# Altium footprint library 42Motor_Control.PcbLib: 2 footprints
Each footprint in its own frame and in the unit in brackets; x right, y up, seen from the top. Pads: shape width x height; smd on the part's side, far side on the other; paste and mask are expansions set on the pad; w line width, h text height; cw(c..) or ccw(c..) is an arc to the next point about the centre after c.
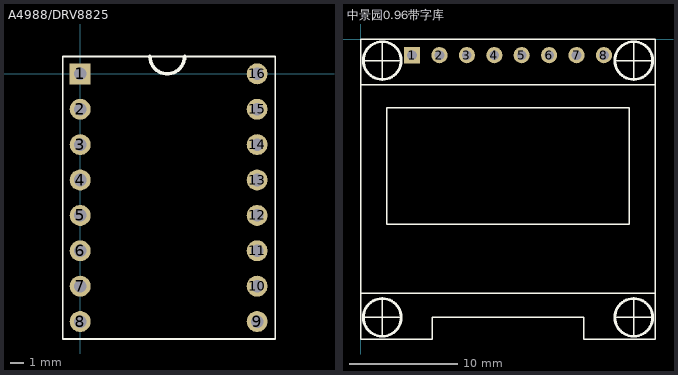
[diagram p0: the footprints below, top view; thin cyan lines are the x and y axes]

## A4988/DRV8825 [mm]
pads (16):
  rect 1.5x1.5 hole 0.9: 1(0,0)
  round 1.5 hole 0.9: 2(0,-2.54) 3(0,-5.08) 4(0,-7.62) 5(0,-10.16) 6(0,-12.7) 7(0,-15.24) 8(0,-17.78) 9(12.7,-17.78) 10(12.7,-15.24) 11(12.7,-12.7) 12(12.7,-10.16) 13(12.7,-7.62) 14(12.7,-5.08) 15(12.7,-2.54) 16(12.7,0)
Top Overlay:
  lines w0.127: -1.25,-19.03 14,-19.03 14,1.25 -1.25,1.25 -1.25,-19.03
  lines w0.254: 5,1.25 ccw(c6.25,1.25) 7.5,1.25

## 中景园0.96带字库 [mm]
pads (8):
  rect 1.5x1.5 hole 0.9: 1(4.76,-1.5)
  round 1.5 hole 0.9: 2(7.3,-1.5) 3(9.84,-1.5) 4(12.38,-1.5) 5(14.92,-1.5) 6(17.46,-1.5) 7(20,-1.5) 8(22.54,-1.5)
Top Overlay:
  circle w0.254: c2,-25.8 r1.75
  circle w0.254: c25.3,-25.8 r1.75
  circle w0.254: c25.3,-2 r1.75
  circle w0.254: c2,-2 r1.75
  lines w0.127: 0,-23.55 27.3,-23.55 ; 0,-4.25 27.3,-4.25 ; 0.3,-25.8 3.75,-25.8 ; 0.3,-2 3.75,-2 ; 2,-27.6 2,-24.1 ; 2,-3.7 2,-0.2 ; 23.55,-25.8 27,-25.8 ; 23.6,-2 27.1,-2 ; 25.3,-27.6 25.3,-24.1 ; 25.3,-3.75 25.3,-0.3 ; 0,-27.8 0,0 27.3,0 27.3,-27.8 20.65,-27.8 20.65,-25.8 6.65,-25.8 6.65,-27.8 0,-27.8 ; 2.4,-17.15 24.9,-17.15 24.9,-6.35 2.4,-6.35 2.4,-17.15